# Altium integrated library FTDI Communication FIFO.IntLib: 9 symbols
Pins are listed as number, name and electrical type; pins without a type are passive.

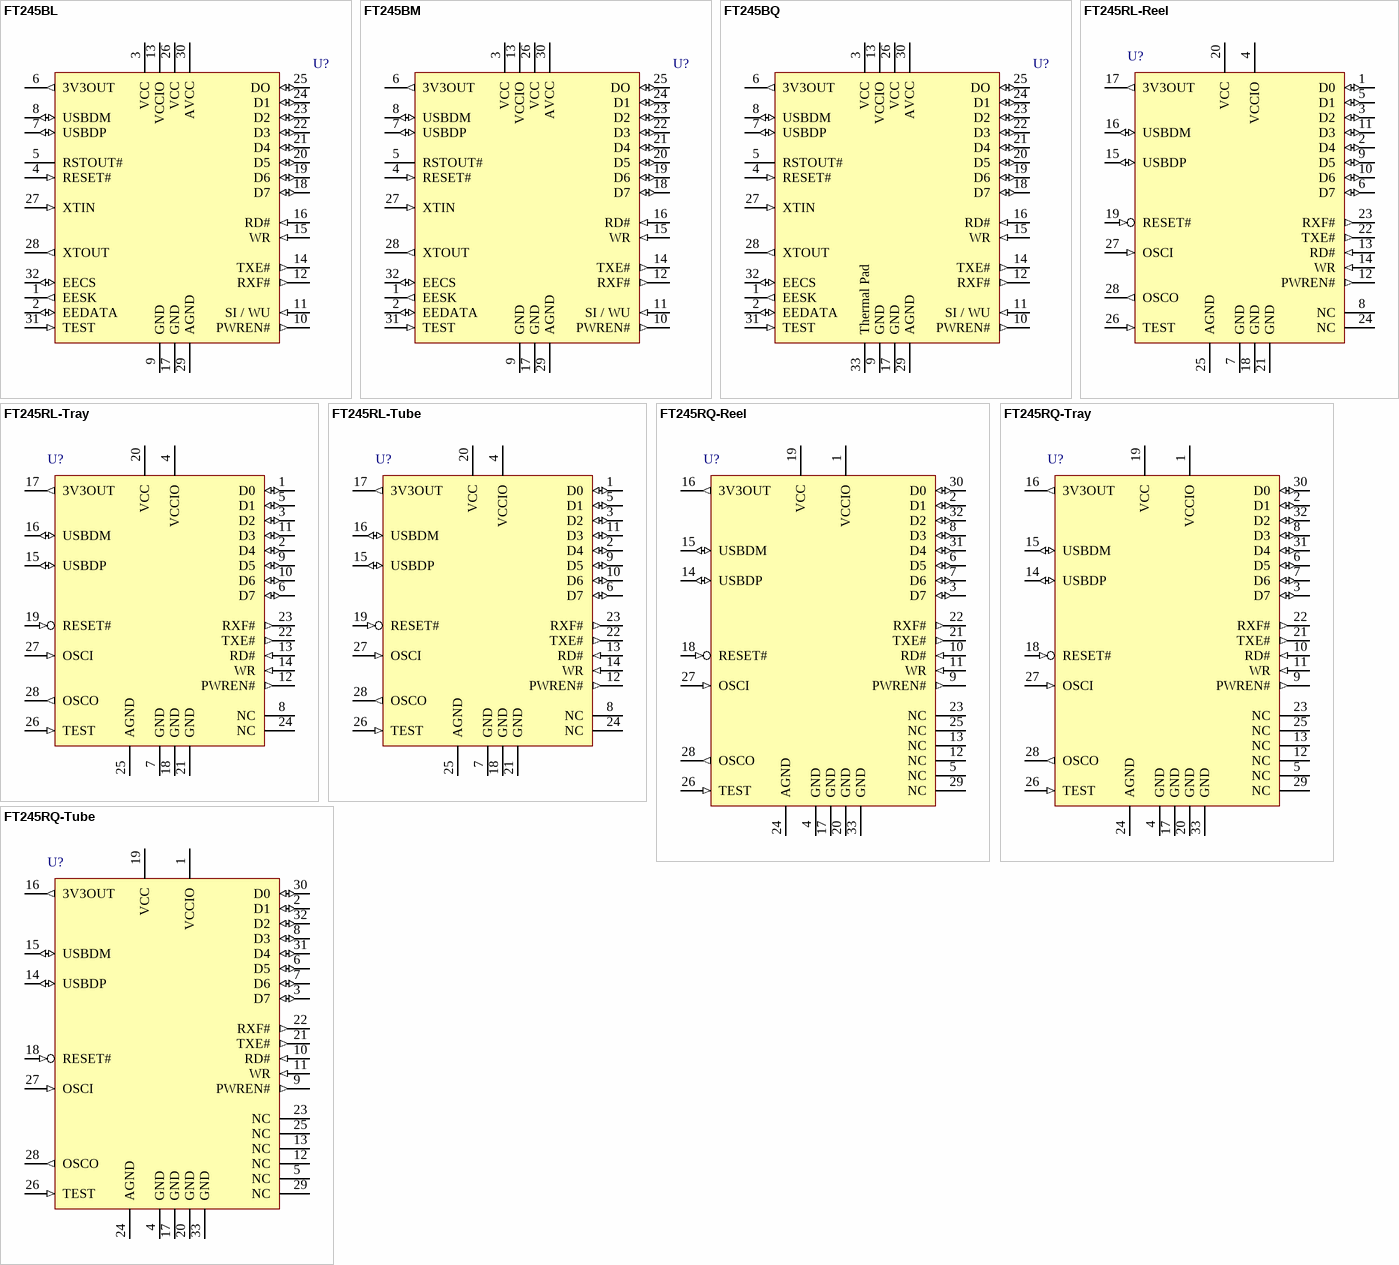
[diagram p0: symbols FT245BL to FT245RQ-Tube]

## FT245BL
designator U?
USB/Parallel FIFO Bi-Directional Data Transfer Chip, LQFP-32, Pb-Free; Published: 6-Jun-2005; LatestRevisionDate: 13-Apr-2006; LatestRevisionNote: IPC-7351 Footprint Added.; DatasheetVersion: ver 1.7, Dec-2005; PackageVersion: 2004; PackageReference: LQFP-32; Publisher: Altium Limited; PackageDescription: 32-Pin Thin Quad Flat Pack 0.8 mm Pitch; ComponentLink1Description: Manufacturer Link; ComponentLink1URL: http://www.ftdichip.com/Products/ICs/FT245B.htm; ComponentLink2Description: Datasheet; ComponentLink2URL: http://www.ftdichip.com/Support/Documents/DataSheets/ICs/DS_FT245BL.pdf
footprint LQFP-32_N (Thin QFP, 32-Leads, Body 7x7mm, Pitch 0.8mm, IPC Medium Density)
footprint LQFP-32_L (Thin QFP, 32-Leads, Body 7x7mm, Pitch 0.8mm, IPC High Density)
footprint LQFP-32_M (Thin QFP, 32-Leads, Body 7x7mm, Pitch 0.8mm, IPC Low Density)
pins: 1 EESK (out) "Clock signal to EEPROM. Adding a 10K pull down resistor onto EESK will cause the FT245BM to use USB Product ID 6005 (hex) instead of 6001 (hex). All of the other USB device descriptors are unchanged.", 2 EEDATA (io) "EEPROM - Data I/O Connect directly to Data-In of the EEPROM and to Data-Out of the EEPROM via a 2.2K resistor. Also pull Data-Out of the EEPROM to VCC via a 10K resistor for correct operation.", 3 VCC (power) "+4.35 volt to +5.25 volt VCC to the device core, LDO and none-FIFO interface pins.", 4 RESET# (in) "Can be used by an external device to reset the FT245BM. If not required, tie to VCC.", 5 RSTOUT# (hiz) "Output of the internal Reset Generator. Stays high impedance for 5ms after VCC > 3.5V and the internal clock starts up, then clamps its output to the 3.3V output of the internal regulator.", 6 3V3OUT (out) "3.3 volt Output from the integrated L.D.O. regulator This pin should be decoupled to GND using a 33nF ceramic capacitor in close proximity to the device pin.", 7 USBDP (io) "USB Data Signal Plus (Requires 1.5K pull-up to 3V3OUT or RSTOUT#)", 8 USBDM (io) "USB Data Signal Minus", 9 GND (power) "Device - Ground Supply Pins", 10 PWREN# (out) "Goes Low after the device is configured via USB, then high during USB suspend. Can be used to control power to external logic using a P-Channel MOSFET switch. Enable the Interface Pull-Down Option in EEPROM when using the PWREN# pin in this way.", 11 SI / WU (in) "Send Immediate / WakeUp. Tie this pin to VCCIO if not used.", 12 RXF# (out) "When high, do not read data from the FIFO. When low, there is data available in the FIFO which can be read by strobing RD# low then high again.", 13 VCCIO (power) "+3.0 volt to +5.25 volt VCC to the FIFO interface pins 10..12, 14..16 and 18..25.", 14 TXE# (out) "When high, do not write data into the FIFO. When low, data can be written into the FIFO by strobing WR high then low.", 15 WR (in) "Writes the Data Byte on the D0..D7 into the Transmit FIFO Buffer when WR goes from high to low.", 16 RD# (in) "Enables Current FIFO Data Byte on D0..D7 when low. Fetches the next FIFO Data Byte (if available) from the Receive FIFO Buffer when RD# goes from low to high.", 17 GND (power) "Device - Ground Supply Pins", 18 D7 (io) "FIFO Data Bus Bit 7", 19 D6 (io) "FIFO Data Bus Bit 6", 20 D5 (io) "FIFO Data Bus Bit 5", 21 D4 (io) "FIFO Data Bus Bit 4", 22 D3 (io) "FIFO Data Bus Bit 3", 23 D2 (io) "FIFO Data Bus Bit 2", 24 D1 (io) "FIFO Data Bus Bit 1", 25 DO (io) "FIFO Data Bus Bit 0", 26 VCC (power) "+4.35 volt to +5.25 volt VCC to the device core, LDO and none-FIFO interface pins.", 27 XTIN (in) "Input to 6MHz Crystal Oscillator. Can also be driven by an external 6MHz clock. Note : Switching threshold of this pin is VCC/2, so if driving from an external source, the source must be driving at 5V CMOS level or a.c. coupled to centre around VCC/2.", 28 XTOUT (out) "Output from 6MHz Crystal Oscillator Cell. XTOUT stops oscillating during USB suspend, so take care if using this signal to clock external logic.", 29 AGND (power) "Device - Analog Ground Supply for the internal x8 clock multiplier", 30 AVCC (power) "Device - Analog Power Supply for the internal x8 clock multiplier", 31 TEST (in) "Puts device in I.C. test mode – must be tied to GND for normal operation.", 32 EECS (io) "EEPROM - Chip Select. For 48MHz operation pull EECS to GND using a 10K resistor. For 6MHz operation no resistor is required."

## FT245BM
designator U?
USB/Parallel FIFO Bi-Directional Data Transfer Chip, LQFP-32; Published: 6-Jun-2005; LatestRevisionDate: 13-Apr-2006; LatestRevisionNote: IPC-7351 Footprint Added.; DatasheetVersion: ver 1.7, Dec-2005; PackageVersion: 2004; PackageReference: LQFP-32; Publisher: Altium Limited; PackageDescription: 32-Pin Thin Quad Flat Pack 0.8 mm Pitch; ComponentLink1Description: Manufacturer Link; ComponentLink1URL: http://www.ftdichip.com/Products/ICs/FT245BM.htm; ComponentLink2Description: Datasheet; ComponentLink2URL: http://www.ftdichip.com/Support/Documents/DataSheets/ICs/DS_FT245BM.pdf
footprint LQFP-32_N (Thin QFP, 32-Leads, Body 7x7mm, Pitch 0.8mm, IPC Medium Density)
footprint LQFP-32_L (Thin QFP, 32-Leads, Body 7x7mm, Pitch 0.8mm, IPC High Density)
footprint LQFP-32_M (Thin QFP, 32-Leads, Body 7x7mm, Pitch 0.8mm, IPC Low Density)
pins: 1 EESK (out) "Clock signal to EEPROM. Adding a 10K pull down resistor onto EESK will cause the FT245BM to use USB Product ID 6005 (hex) instead of 6001 (hex). All of the other USB device descriptors are unchanged.", 2 EEDATA (io) "EEPROM - Data I/O Connect directly to Data-In of the EEPROM and to Data-Out of the EEPROM via a 2.2K resistor. Also pull Data-Out of the EEPROM to VCC via a 10K resistor for correct operation.", 3 VCC (power) "+4.35 volt to +5.25 volt VCC to the device core, LDO and none-FIFO interface pins.", 4 RESET# (in) "Can be used by an external device to reset the FT245BM. If not required, tie to VCC.", 5 RSTOUT# (hiz) "Output of the internal Reset Generator. Stays high impedance for 5ms after VCC > 3.5V and the internal clock starts up, then clamps its output to the 3.3V output of the internal regulator.", 6 3V3OUT (out) "3.3 volt Output from the integrated L.D.O. regulator This pin should be decoupled to GND using a 33nF ceramic capacitor in close proximity to the device pin.", 7 USBDP (io) "USB Data Signal Plus (Requires 1.5K pull-up to 3V3OUT or RSTOUT#)", 8 USBDM (io) "USB Data Signal Minus", 9 GND (power) "Device - Ground Supply Pins", 10 PWREN# (out) "Goes Low after the device is configured via USB, then high during USB suspend. Can be used to control power to external logic using a P-Channel MOSFET switch. Enable the Interface Pull-Down Option in EEPROM when using the PWREN# pin in this way.", 11 SI / WU (in) "Send Immediate / WakeUp. Tie this pin to VCCIO if not used.", 12 RXF# (out) "When high, do not read data from the FIFO. When low, there is data available in the FIFO which can be read by strobing RD# low then high again.", 13 VCCIO (power) "+3.0 volt to +5.25 volt VCC to the FIFO interface pins 10..12, 14..16 and 18..25.", 14 TXE# (out) "When high, do not write data into the FIFO. When low, data can be written into the FIFO by strobing WR high then low.", 15 WR (in) "Writes the Data Byte on the D0..D7 into the Transmit FIFO Buffer when WR goes from high to low.", 16 RD# (in) "Enables Current FIFO Data Byte on D0..D7 when low. Fetches the next FIFO Data Byte (if available) from the Receive FIFO Buffer when RD# goes from low to high.", 17 GND (power) "Device - Ground Supply Pins", 18 D7 (io) "FIFO Data Bus Bit 7", 19 D6 (io) "FIFO Data Bus Bit 6", 20 D5 (io) "FIFO Data Bus Bit 5", 21 D4 (io) "FIFO Data Bus Bit 4", 22 D3 (io) "FIFO Data Bus Bit 3", 23 D2 (io) "FIFO Data Bus Bit 2", 24 D1 (io) "FIFO Data Bus Bit 1", 25 DO (io) "FIFO Data Bus Bit 0", 26 VCC (power) "+4.35 volt to +5.25 volt VCC to the device core, LDO and none-FIFO interface pins.", 27 XTIN (in) "Input to 6MHz Crystal Oscillator. Can also be driven by an external 6MHz clock. Note : Switching threshold of this pin is VCC/2, so if driving from an external source, the source must be driving at 5V CMOS level or a.c. coupled to centre around VCC/2.", 28 XTOUT (out) "Output from 6MHz Crystal Oscillator Cell. XTOUT stops oscillating during USB suspend, so take care if using this signal to clock external logic.", 29 AGND (power) "Device - Analog Ground Supply for the internal x8 clock multiplier", 30 AVCC (power) "Device - Analog Power Supply for the internal x8 clock multiplier", 31 TEST (in) "Puts device in I.C. test mode – must be tied to GND for normal operation.", 32 EECS (io) "EEPROM - Chip Select. For 48MHz operation pull EECS to GND using a 10K resistor. For 6MHz operation no resistor is required."

## FT245BQ
designator U?
USB/Parallel FIFO Bi-Directional Data Transfer Chip, QFN32, Pb-Free; Published: 6-Oct-2005; LatestRevisionDate: 13-Apr-2006; LatestRevisionNote: IPC-7351 Footprint Added.; DatasheetVersion: ver 1.7, Dec-2005; PackageVersion: 2005; PackageReference: QFN5X5-32; Publisher: Altium Limited; PackageDescription: 32-Pin Quad Flat No-Lead 0.5 mm Pitch; ComponentLink1Description: Manufacturer Link; ComponentLink1URL: http://www.ftdichip.com/Products/ICs/FT245B.htm; ComponentLink2Description: Datasheet; ComponentLink2URL: http://www.ftdichip.com/Support/Documents/DataSheets/ICs/DS_FT245BQ.pdf
footprint QFN5X5-32_N (QFN, 32-Leads, Body 5x5mm, Pitch 0.5mm, IPC Medium Density)
footprint QFN5X5-32_L (QFN, 32-Leads, Body 5x5mm, Pitch 0.5mm, IPC High Density)
footprint QFN5X5-32_M (QFN, 32-Leads, Body 5x5mm, Pitch 0.5mm, IPC Low Density)
pins: 1 EESK (out) "Clock signal to EEPROM. Adding a 10K pull down resistor onto EESK will cause the FT245BM to use USB Product ID 6005 (hex) instead of 6001 (hex). All of the other USB device descriptors are unchanged.", 2 EEDATA (io) "EEPROM - Data I/O Connect directly to Data-In of the EEPROM and to Data-Out of the EEPROM via a 2.2K resistor. Also pull Data-Out of the EEPROM to VCC via a 10K resistor for correct operation.", 3 VCC (power) "+4.35 volt to +5.25 volt VCC to the device core, LDO and none-FIFO interface pins.", 4 RESET# (in) "Can be used by an external device to reset the FT245BM. If not required, tie to VCC.", 5 RSTOUT# (hiz) "Output of the internal Reset Generator. Stays high impedance for 5ms after VCC > 3.5V and the internal clock starts up, then clamps its output to the 3.3V output of the internal regulator.", 6 3V3OUT (out) "3.3 volt Output from the integrated L.D.O. regulator This pin should be decoupled to GND using a 33nF ceramic capacitor in close proximity to the device pin.", 7 USBDP (io) "USB Data Signal Plus (Requires 1.5K pull-up to 3V3OUT or RSTOUT#)", 8 USBDM (io) "USB Data Signal Minus", 9 GND (power) "Device - Ground Supply Pins", 10 PWREN# (out) "Goes Low after the device is configured via USB, then high during USB suspend. Can be used to control power to external logic using a P-Channel MOSFET switch. Enable the Interface Pull-Down Option in EEPROM when using the PWREN# pin in this way.", 11 SI / WU (in) "Send Immediate / WakeUp. Tie this pin to VCCIO if not used.", 12 RXF# (out) "When high, do not read data from the FIFO. When low, there is data available in the FIFO which can be read by strobing RD# low then high again.", 13 VCCIO (power) "+3.0 volt to +5.25 volt VCC to the FIFO interface pins 10..12, 14..16 and 18..25.", 14 TXE# (out) "When high, do not write data into the FIFO. When low, data can be written into the FIFO by strobing WR high then low.", 15 WR (in) "Writes the Data Byte on the D0..D7 into the Transmit FIFO Buffer when WR goes from high to low.", 16 RD# (in) "Enables Current FIFO Data Byte on D0..D7 when low. Fetches the next FIFO Data Byte (if available) from the Receive FIFO Buffer when RD# goes from low to high.", 17 GND (power) "Device - Ground Supply Pins", 18 D7 (io) "FIFO Data Bus Bit 7", 19 D6 (io) "FIFO Data Bus Bit 6", 20 D5 (io) "FIFO Data Bus Bit 5", 21 D4 (io) "FIFO Data Bus Bit 4", 22 D3 (io) "FIFO Data Bus Bit 3", 23 D2 (io) "FIFO Data Bus Bit 2", 24 D1 (io) "FIFO Data Bus Bit 1", 25 DO (io) "FIFO Data Bus Bit 0", 26 VCC (power) "+4.35 volt to +5.25 volt VCC to the device core, LDO and none-FIFO interface pins.", 27 XTIN (in) "Input to 6MHz Crystal Oscillator. Can also be driven by an external 6MHz clock. Note : Switching threshold of this pin is VCC/2, so if driving from an external source, the source must be driving at 5V CMOS level or a.c. coupled to centre around VCC/2.", 28 XTOUT (out) "Output from 6MHz Crystal Oscillator Cell. XTOUT stops oscillating during USB suspend, so take care if using this signal to clock external logic.", 29 AGND (power) "Device - Analog Ground Supply for the internal x8 clock multiplier", 30 AVCC (power) "Device - Analog Power Supply for the internal x8 clock multiplier", 31 TEST (in) "Puts device in I.C. test mode – must be tied to GND for normal operation.", 32 EECS (io) "EEPROM - Chip Select. For 48MHz operation pull EECS to GND using a 10K resistor. For 6MHz operation no resistor is required.", 33 Thermal Pad (power)

## FT245RL-Reel
designator U?
USB/Parallel FIFO Bi-Directional Data Transfer Chip, SSOP-28, Tape and Reel; Published: 19-Aug-2010; DatasheetVersion: ver 2.10, Jul-2010; PackageVersion: 2010; PackageReference: SSOP-28; Publisher: Altium Limited; PackageDescription: 28-Pin Small Outline Package 0.65 mm Pitch; ComponentLink1Description: Manufacturer Link; ComponentLink1URL: http://www.ftdichip.com/Products/ICs/FT245R.htm; ComponentLink2Description: Datasheet; ComponentLink2URL: http://www.ftdichip.com/Support/Documents/DataSheets/ICs/DS_FT245R.pdf
footprint SSOP-28_N (SOP, 28-Leads, Body 10.2x5.3mm, Pitch 0.65mm, IPC Medium Density)
footprint SSOP-28_L (SOP, 28-Leads, Body 10.2x5.3mm, Pitch 0.65mm, IPC High Density)
footprint SSOP-28_M (SOP, 28-Leads, Body 10.2x5.3mm, Pitch 0.65mm, IPC Low Density)
pins: 1 D0 (io), 2 D4 (io), 3 D2 (io), 4 VCCIO (power), 5 D1 (io), 6 D7 (io), 7 GND (power), 8 NC, 9 D5 (io), 10 D6 (io), 11 D3 (io), 12 PWREN# (out), 13 RD# (in), 14 WR (in), 15 USBDP (io), 16 USBDM (io), 17 3V3OUT (out), 18 GND (power), 19 RESET# (in), 20 VCC (power), 21 GND (power), 22 TXE# (out), 23 RXF# (out), 24 NC, 25 AGND (power), 26 TEST (in), 27 OSCI (in), 28 OSCO (out)

## FT245RL-Tray
designator U?
USB/Parallel FIFO Bi-Directional Data Transfer Chip, SSOP-28, Tray; Published: 19-Aug-2010; DatasheetVersion: ver 2.10, Jul-2010; PackageVersion: 2010; PackageReference: SSOP-28; Publisher: Altium Limited; PackageDescription: 28-Pin Small Outline Package 0.65 mm Pitch; ComponentLink1Description: Manufacturer Link; ComponentLink1URL: http://www.ftdichip.com/Products/ICs/FT245R.htm; ComponentLink2Description: Datasheet; ComponentLink2URL: http://www.ftdichip.com/Support/Documents/DataSheets/ICs/DS_FT245R.pdf
footprint SSOP-28_N (SOP, 28-Leads, Body 10.2x5.3mm, Pitch 0.65mm, IPC Medium Density)
footprint SSOP-28_L (SOP, 28-Leads, Body 10.2x5.3mm, Pitch 0.65mm, IPC High Density)
footprint SSOP-28_M (SOP, 28-Leads, Body 10.2x5.3mm, Pitch 0.65mm, IPC Low Density)
pins: 1 D0 (io), 2 D4 (io), 3 D2 (io), 4 VCCIO (power), 5 D1 (io), 6 D7 (io), 7 GND (power), 8 NC, 9 D5 (io), 10 D6 (io), 11 D3 (io), 12 PWREN# (out), 13 RD# (in), 14 WR (in), 15 USBDP (io), 16 USBDM (io), 17 3V3OUT (out), 18 GND (power), 19 RESET# (in), 20 VCC (power), 21 GND (power), 22 TXE# (out), 23 RXF# (out), 24 NC, 25 AGND (power), 26 TEST (in), 27 OSCI (in), 28 OSCO (out)

## FT245RL-Tube
designator U?
USB/Parallel FIFO Bi-Directional Data Transfer Chip, SSOP-28, Tube; Published: 19-Aug-2010; DatasheetVersion: ver 2.10, Jul-2010; PackageVersion: 2010; PackageReference: SSOP-28; Publisher: Altium Limited; PackageDescription: 28-Pin Small Outline Package 0.65 mm Pitch; ComponentLink1Description: Manufacturer Link; ComponentLink1URL: http://www.ftdichip.com/Products/ICs/FT245R.htm; ComponentLink2Description: Datasheet; ComponentLink2URL: http://www.ftdichip.com/Support/Documents/DataSheets/ICs/DS_FT245R.pdf
footprint SSOP-28_N (SOP, 28-Leads, Body 10.2x5.3mm, Pitch 0.65mm, IPC Medium Density)
footprint SSOP-28_L (SOP, 28-Leads, Body 10.2x5.3mm, Pitch 0.65mm, IPC High Density)
footprint SSOP-28_M (SOP, 28-Leads, Body 10.2x5.3mm, Pitch 0.65mm, IPC Low Density)
pins: 1 D0 (io), 2 D4 (io), 3 D2 (io), 4 VCCIO (power), 5 D1 (io), 6 D7 (io), 7 GND (power), 8 NC, 9 D5 (io), 10 D6 (io), 11 D3 (io), 12 PWREN# (out), 13 RD# (in), 14 WR (in), 15 USBDP (io), 16 USBDM (io), 17 3V3OUT (out), 18 GND (power), 19 RESET# (in), 20 VCC (power), 21 GND (power), 22 TXE# (out), 23 RXF# (out), 24 NC, 25 AGND (power), 26 TEST (in), 27 OSCI (in), 28 OSCO (out)

## FT245RQ-Reel
designator U?
USB/Parallel FIFO Bi-Directional Data Transfer Chip, QFN-32, Tape and Reel; Published: 19-Aug-2010; DatasheetVersion: ver 2.10, Jul-2010; PackageVersion: 2010; PackageReference: PQFN5X5-32; Publisher: Altium Limited; PackageDescription: 32-Pin Quad Flat No-Lead 0.5 mm Pitch, Pullback, 3.2 x 3.2 mm Exposed Pad; ComponentLink1Description: Manufacturer Link; ComponentLink1URL: http://www.ftdichip.com/Products/ICs/FT245R.htm; ComponentLink2Description: Datasheet; ComponentLink2URL: http://www.ftdichip.com/Support/Documents/DataSheets/ICs/DS_FT245R.pdf
footprint PQFN5X5-32_V (QFN, 32-Leads, Body 5x5mm, Pitch 0.5mm, FTDI Recommended)
pins: 1 VCCIO (power), 2 D1 (io), 3 D7 (io), 4 GND (power), 5 NC, 6 D5 (io), 7 D6 (io), 8 D3 (io), 9 PWREN# (out), 10 RD# (in), 11 WR (in), 12 NC, 13 NC, 14 USBDP (io), 15 USBDM (io), 16 3V3OUT (out), 17 GND (power), 18 RESET# (in), 19 VCC (power), 20 GND (power), 21 TXE# (out), 22 RXF# (out), 23 NC, 24 AGND (power), 25 NC, 26 TEST (in), 27 OSCI (in), 28 OSCO (out), 29 NC, 30 D0 (io), 31 D4 (io), 32 D2 (io), 33 GND (power)

## FT245RQ-Tray
designator U?
USB/Parallel FIFO Bi-Directional Data Transfer Chip, QFN-32, Tray; Published: 19-Aug-2010; DatasheetVersion: ver 2.10, Jul-2010; PackageVersion: 2010; PackageReference: PQFN5X5-32; Publisher: Altium Limited; PackageDescription: 32-Pin Quad Flat No-Lead 0.5 mm Pitch, Pullback, 3.2 x 3.2 mm Exposed Pad; ComponentLink1Description: Manufacturer Link; ComponentLink1URL: http://www.ftdichip.com/Products/ICs/FT245R.htm; ComponentLink2Description: Datasheet; ComponentLink2URL: http://www.ftdichip.com/Support/Documents/DataSheets/ICs/DS_FT245R.pdf
footprint PQFN5X5-32_V (QFN, 32-Leads, Body 5x5mm, Pitch 0.5mm, FTDI Recommended)
pins: 1 VCCIO (power), 2 D1 (io), 3 D7 (io), 4 GND (power), 5 NC, 6 D5 (io), 7 D6 (io), 8 D3 (io), 9 PWREN# (out), 10 RD# (in), 11 WR (in), 12 NC, 13 NC, 14 USBDP (io), 15 USBDM (io), 16 3V3OUT (out), 17 GND (power), 18 RESET# (in), 19 VCC (power), 20 GND (power), 21 TXE# (out), 22 RXF# (out), 23 NC, 24 AGND (power), 25 NC, 26 TEST (in), 27 OSCI (in), 28 OSCO (out), 29 NC, 30 D0 (io), 31 D4 (io), 32 D2 (io), 33 GND (power)

## FT245RQ-Tube
designator U?
USB/Parallel FIFO Bi-Directional Data Transfer Chip, QFN-32, Tube; Published: 19-Aug-2010; DatasheetVersion: ver 2.10, Jul-2010; PackageVersion: 2010; PackageReference: PQFN5X5-32; Publisher: Altium Limited; PackageDescription: 32-Pin Quad Flat No-Lead 0.5 mm Pitch, Pullback, 3.2 x 3.2 mm Exposed Pad; ComponentLink1Description: Manufacturer Link; ComponentLink1URL: http://www.ftdichip.com/Products/ICs/FT245R.htm; ComponentLink2Description: Datasheet; ComponentLink2URL: http://www.ftdichip.com/Support/Documents/DataSheets/ICs/DS_FT245R.pdf
footprint PQFN5X5-32_V (QFN, 32-Leads, Body 5x5mm, Pitch 0.5mm, FTDI Recommended)
pins: 1 VCCIO (power), 2 D1 (io), 3 D7 (io), 4 GND (power), 5 NC, 6 D5 (io), 7 D6 (io), 8 D3 (io), 9 PWREN# (out), 10 RD# (in), 11 WR (in), 12 NC, 13 NC, 14 USBDP (io), 15 USBDM (io), 16 3V3OUT (out), 17 GND (power), 18 RESET# (in), 19 VCC (power), 20 GND (power), 21 TXE# (out), 22 RXF# (out), 23 NC, 24 AGND (power), 25 NC, 26 TEST (in), 27 OSCI (in), 28 OSCO (out), 29 NC, 30 D0 (io), 31 D4 (io), 32 D2 (io), 33 GND (power)